# Altium schematic symbol library Schlib1.SchLib: 22 symbols
Pins are listed as number, name and electrical type; pins without a type are passive.

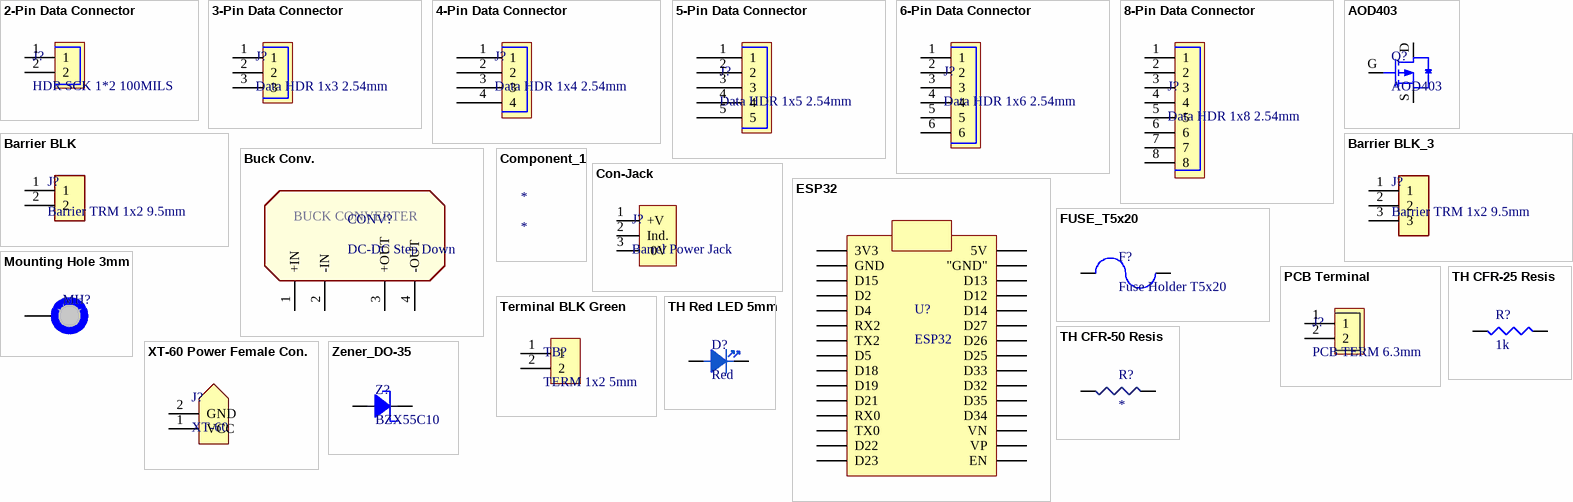
[diagram p0: symbols 2-Pin Data Connector to Zener_DO-35]

## 2-Pin Data Connector
designator J?, comment HDR SCK 1*2 100MILS
Conn Shrouded Header HDR 2 POS 2.54mm Solder ST Thru-Hole; Manufacturer 1: TE Connectivity; Manufacturer Part Number 1: 2-644861-2; Underplate Material: Nickel; Number of Contacts: 2; Connector Type: Plug,Header,Pin; Voltage Rating: 250V; Mating Alignment: Yes (With); PCB Mount Retention: Without; PCB Mounting Orientation: Vertical; Gender: Male; Current Rating: 5A; Contact Resistance: 6mR; Contact Retention: No (Without); Connector System: Wire-to-Board; Contact Style: Straight; Contact Post Length: 3.56mm; Plating Thickness: 6.3um; PCB Thickness: 0.063inch; Approvals: CSA; Supplier 1: Digi-Key; Stock 1: 3206; Pricing 1: 1=0.41000, 10=0.39200, 100=0.27420, 500=0.23506, 1000=0.19588, 5000=0.16790, 10000=0.15670 (USD); RoHS: Yes; Mount: Through Hole; Housing Color: Black; Contact Plating: Tin,Matte; Contact Material: Copper Alloy; Housing Material: Polyester; Color: Black; Contact Shape: Square; Min Operating Temperature: -67°C; Max Operating Temperature: 221°C; Termination: Solder; Number of Rows: 1; Number of Positions: 2; Package Quantity: 500; Packaging: Bag; Contact Gender: Male; Orientation: Straight; Fastening Type: Friction; Max Voltage Rating (AC): 250V; Shrouded: Yes (With); Voltage Rating (AC): 250V; Mating Retention: Yes (With); PCB Mount Alignment: No (Without); Sealable: No (Without); Contact Current Rating: 5A; Strain Relief: No (Without); Backwall/Post Interruptions: No (Without); Length: 7.21mm; Height: 10.41mm; Pitch: 2.54mm; Contact Mating Length: 5.1mm; Depth: 7.95mm; Tail Length: 3.56mm; Radiation Hardening: No; Flammability Rating: UL94 V-0; ELV: Compliant; Lead Free: Lead Free; REACH SVHC: Unknown; ComponentLink1URL: https://datasheet.ciiva.com/16303/eng-ds-82056-mta-0608-16303634.pdf?src-supplier=Future+Electronics; ComponentLink1Description: https://datasheet.ciiva.com/16303/eng-ds-82056-mta-0608-16303634.pdf?src-supplier=Future+Electronics; ComponentLink2URL: https://datasheet.ciiva.com/30111/8852eng-ds-82056-mta-0608-30111398.pdf?src-supplier=Onlinecomponents.com; ComponentLink2Description: https://datasheet.ciiva.com/30111/8852eng-ds-82056-mta-0608-30111398.pdf?src-supplier=Onlinecomponents.com; ComponentLink3URL: https://datasheet.ciiva.com/709/eng-cd-644861-n-basefilename-709739.pdf?src-supplier=Digi-Key; ComponentLink3Description: https://datasheet.ciiva.com/709/eng-cd-644861-n-basefilename-709739.pdf?src-supplier=Digi-Key; ComponentLink4URL: https://datasheet.ciiva.com/3118/eng-ds-82056-mta-0608-3118126.pdf?src-supplier=Avnet; ComponentLink4Description: https://datasheet.ciiva.com/3118/eng-ds-82056-mta-0608-3118126.pdf?src-supplier=Avnet; Supplier Part Number 1: A30931-ND
footprint DHDR 1*2 2,54MM
pins: 1, 2

## 3-Pin Data Connector
designator J?, comment Data HDR 1x3 2.54mm
03P MTA100 SHRD HDR,W/O PEG SN; Manufacturer 1: TE Connectivity; Manufacturer Part Number 1: 2-644861-3; Underplate Material: Nickel; Number of Contacts: 3; Voltage Rating: 250V; Mating Alignment: Yes (With); PCB Mount Retention: Without; PCB Mounting Orientation: Vertical; Connector Type: Plug,Header,Pin; Contact Resistance: 6mR; Current Rating: 5A; Gender: Male; Connector System: Wire-to-Board; Contact Retention: No (Without); Contact Style: Straight; Contact Post Length: 3.56mm; Plating Thickness: 6.3um; PCB Thickness: 0.063inch; Approvals: CSA; Supplier 1: Digi-Key; Stock 1: 12064; Pricing 1: 1=0.51000, 10=0.48000, 100=0.36770, 500=0.31978, 1000=0.26382, 5000=0.23184, 10000=0.21585 (USD); RoHS: Yes; Mount: Through Hole; Color: Black; Contact Plating: Tin,Matte; Contact Material: Copper Alloy; Housing Material: Polyester; Housing Color: Black; Contact Shape: Square; Min Operating Temperature: -67°C; Max Operating Temperature: 221°C; Termination: Solder; Number of Rows: 1; Number of Positions: 3; Package Quantity: 500; Fastening Type: Friction; Packaging: Bag; Contact Gender: Male; Orientation: Straight; Max Voltage Rating (AC): 250V; Voltage Rating (AC): 250V; Shrouded: Yes (With); Mating Retention: Yes (With); PCB Mount Alignment: No (Without); Sealable: No (Without); Contact Current Rating: 5A; Backwall/Post Interruptions: No (Without); Strain Relief: No (Without); Length: 9.75mm; Height: 10.41mm; Pitch: 2.54mm; Contact Mating Length: 5.1mm; Depth: 7.95mm; Tail Length: 3.56mm; Radiation Hardening: No; Flammability Rating: UL94 V-0; ELV: Compliant; Lead Free: Lead Free; REACH SVHC: Unknown; ComponentLink1URL: https://datasheet.ciiva.com/709/eng-cd-644861-n-basefilename-709776.pdf?src-supplier=Digi-Key; ComponentLink1Description: https://datasheet.ciiva.com/709/eng-cd-644861-n-basefilename-709776.pdf?src-supplier=Digi-Key; ComponentLink2URL: https://datasheet.ciiva.com/19463/911331-19463444.pdf?src-supplier=Jameco; ComponentLink2Description: https://datasheet.ciiva.com/19463/911331-19463444.pdf?src-supplier=Jameco; ComponentLink3URL: https://datasheet.ciiva.com/30493/0900766b80f915a0-30493286.pdf?src-supplier=RSComponents; ComponentLink3Description: https://datasheet.ciiva.com/30493/0900766b80f915a0-30493286.pdf?src-supplier=RSComponents; ComponentLink4URL: https://datasheet.ciiva.com/16684/eng-ds-82056-mta-0608-16684920.pdf?src-supplier=Avnet+Europe; ComponentLink4Description: https://datasheet.ciiva.com/16684/eng-ds-82056-mta-0608-16684920.pdf?src-supplier=Avnet+Europe; ComponentLink5URL: https://datasheet.ciiva.com/30195/8852eng-ds-82056-mta-0608-30195592.pdf?src-supplier=Onlinecomponents.com; ComponentLink5Description: https://datasheet.ciiva.com/30195/8852eng-ds-82056-mta-0608-30195592.pdf?src-supplier=Onlinecomponents.com; ComponentLink6URL: https://datasheet.ciiva.com/16374/2-644861-3-16374442.pdf?src-supplier=Future+Electronics; ComponentLink6Description: https://datasheet.ciiva.com/16374/2-644861-3-16374442.pdf?src-supplier=Future+Electronics
footprint DHDR_1x3_2.54mm
pins: 1, 2, 3

## 4-Pin Data Connector
designator J?, comment Data HDR 1x4 2.54mm
MTA-100 Series, 2.54mm Pitch 4 Way 1 RowStraight PCB Header, Solder Term, 5A; Manufacturer 1: TE Connectivity; Manufacturer Part Number 1: 2-644861-4; Underplate Material: Nickel; Number of Contacts: 4; Connector Type: Plug,Header,Pin; Voltage Rating: 250V; Gender: Male; Shrouded: Yes (With); PCB Mount Retention: Without; PCB Mounting Orientation: Vertical; Contact Resistance: 6mR; Backwall/Post Interruptions: No (Without); Connector System: Wire-to-Board; Contact Post Length: 3.56mm; Plating Thickness: 6.35um; PCB Thickness: 0.063inch; Approvals: CSA; Supplier 1: Digi-Key; Stock 1: 18767; Pricing 1: 1=0.79000, 10=0.74100, 100=0.56790, 500=0.49380, 1000=0.40739, 5000=0.35801, 10000=0.33332 (USD); RoHS: Yes; Mount: Through Hole; Housing Color: Black; Color: Black; Contact Material: Copper Alloy; Contact Plating: Tin,Matte; Housing Material: Polyester; Contact Shape: Square; Min Operating Temperature: -67°C; Max Operating Temperature: 221°C; Termination: Solder; Number of Rows: 1; Contact Gender: Male; Number of Positions: 4; Package Quantity: 500; Packaging: Loose Piece; Current Rating: 5A; Voltage Rating (AC): 250V; Mating Alignment: Yes (With); Orientation: Straight; Fastening Type: Friction; Max Voltage Rating (AC): 250V; Contact Current Rating: 5A; Contact Retention: No (Without); Mating Retention: Yes (With); PCB Mount Alignment: No (Without); Sealable: No (Without); Strain Relief: No (Without); Contact Style: Straight; Length: 12.29mm; Height: 10.41mm; Pitch: 2.54mm; Contact Mating Length: 5.1mm; Depth: 7.95mm; Tail Length: 3.56mm; Radiation Hardening: No; Flammability Rating: UL94 V-0; ELV: Compliant; Lead Free: Lead Free; REACH SVHC: Unknown; ComponentLink1URL: https://datasheet.ciiva.com/7800/1651878-7800290.pdf?src-supplier=Element14; ComponentLink1Description: https://datasheet.ciiva.com/7800/1651878-7800290.pdf?src-supplier=Element14; ComponentLink2URL: https://datasheet.ciiva.com/15175/getdatasheetpartid-36841-15175492.pdf?src-supplier=Verical; ComponentLink2Description: https://datasheet.ciiva.com/15175/getdatasheetpartid-36841-15175492.pdf?src-supplier=Verical; ComponentLink3URL: https://datasheet.ciiva.com/11759/0900766b80f915a0-11759930.pdf?src-supplier=RSComponents; ComponentLink3Description: https://datasheet.ciiva.com/11759/0900766b80f915a0-11759930.pdf?src-supplier=RSComponents; ComponentLink4URL: https://datasheet.ciiva.com/714/eng-cd-644861-n-basefilename-714593.pdf?src-supplier=Digi-Key; ComponentLink4Description: https://datasheet.ciiva.com/714/eng-cd-644861-n-basefilename-714593.pdf?src-supplier=Digi-Key; ComponentLink5URL: https://datasheet.ciiva.com/16684/eng-ds-82056-mta-0608-16684709.pdf?src-supplier=Avnet+Europe; ComponentLink5Description: https://datasheet.ciiva.com/16684/eng-ds-82056-mta-0608-16684709.pdf?src-supplier=Avnet+Europe; ComponentLink6URL: https://datasheet.ciiva.com/16497/eng-ds-82056-mta-0608-16497871.pdf?src-supplier=Avnet+Asia; ComponentLink6Description: https://datasheet.ciiva.com/16497/eng-ds-82056-mta-0608-16497871.pdf?src-supplier=Avnet+Asia; Supplier Part Number 1: A30933-ND
footprint DHDR_1x4_2.54mm
pins: 1, 2, 3, 4

## 5-Pin Data Connector
designator J?, comment Data HDR 1x5 2.54mm
TE CONNECTIVITY / AMP         2-644861-5            Wire-To-Board Connector, MTA-100 Series, Through Hole, Header, 5 Contacts, 2.54 mm; Underplate Material: Nickel; Connector Type: Plug,Header,Pin; Number of Positions: 5; Gender: Male; Mating Alignment: Yes (With); PCB Mount Retention: Without; PCB Mounting Orientation: Vertical; Contact Resistance: 6mR; Max Voltage Rating (AC): 250V; Current Rating: 5A; Strain Relief: No (Without); Contact Style: Straight; Contact Post Length: 3.56mm; PCB Thickness: 0.063inch; Plating Thickness: 6.3um; Approvals: CSA; Supplier 1: Digi-Key; Manufacturer 1: TE Connectivity; Manufacturer Part Number 1: 2-644861-5; Stock 1: 995; Pricing 1: 1=0.88000, 10=0.77100, 100=0.66540, 500=0.54444, 1000=0.48395, 5000=0.42346, 10000=0.40229 (USD); RoHS: Yes; Mount: Through Hole; Housing Color: Black; Housing Material: Polyester; Contact Material: Copper Alloy; Contact Plating: Tin,Matte; Color: Black; Contact Shape: Square; Min Operating Temperature: -67°C; Max Operating Temperature: 221°C; Termination: Solder; Number of Contacts: 5; Number of Rows: 1; Package Quantity: 500; Packaging: Bag; Orientation: Straight; Contact Gender: Male; Fastening Type: Friction; Voltage Rating: 250V; Voltage Rating (AC): 250V; Shrouded: Yes (With); Contact Current Rating: 5A; Backwall/Post Interruptions: No (Without); Contact Retention: No (Without); Mating Retention: Yes (With); PCB Mount Alignment: No (Without); Connector System: Wire-to-Board; Sealable: No (Without); Length: 0.584inch; Height: 10.41mm; Pitch: 2.54mm; Contact Mating Length: 5.1mm; Depth: 7.95mm; Tail Length: 3.56mm; Radiation Hardening: No; Flammability Rating: UL94 V-0; ELV: Compliant; Lead Free: Lead Free; REACH SVHC: No SVHC; ComponentLink1URL: https://datasheet.ciiva.com/11759/0900766b80f915a1-11759928.pdf?src-supplier=RSComponents; ComponentLink1Description: https://datasheet.ciiva.com/11759/0900766b80f915a1-11759928.pdf?src-supplier=RSComponents; ComponentLink2URL: https://datasheet.ciiva.com/712/eng-cd-644861-n-basefilename-712852.pdf?src-supplier=Digi-Key; ComponentLink2Description: https://datasheet.ciiva.com/712/eng-cd-644861-n-basefilename-712852.pdf?src-supplier=Digi-Key; ComponentLink3URL: https://datasheet.ciiva.com/9478/eng-ds-82056-mta-0608-9478361.pdf?src-supplier=Avnet; ComponentLink3Description: https://datasheet.ciiva.com/9478/eng-ds-82056-mta-0608-9478361.pdf?src-supplier=Avnet; ComponentLink4URL: https://datasheet.ciiva.com/30161/8852eng-ds-82056-mta-0608-30161999.pdf?src-supplier=Onlinecomponents.com; ComponentLink4Description: https://datasheet.ciiva.com/30161/8852eng-ds-82056-mta-0608-30161999.pdf?src-supplier=Onlinecomponents.com; Supplier Part Number 1: A30934-ND
footprint DHDR_1x5_2.54mm
pins: 1, 2, 3, 4, 5

## 6-Pin Data Connector
designator J?, comment Data HDR 1x6 2.54mm
CONN HEADER VERT 6POS .100 TIN; Manufacturer 1: TE Connectivity; Manufacturer Part Number 1: 2-644861-6; Underplate Material: Nickel; Number of Contacts: 6; Connector Type: Plug,Header,Pin; Contact Resistance: 6mR; Mating Alignment: Yes (With); PCB Mount Retention: Without; PCB Mounting Orientation: Vertical; Parameter Name 1: Box; Voltage Rating: 250V; Current Rating: 5A; Backwall/Post Interruptions: No (Without); Connector System: Wire-to-Board; Plating Thickness: 6.3um; Contact Style: Straight; Contact Post Length: 3.56mm; PCB Thickness: 0.063inch; Approvals: CSA; Supplier 1: Digi-Key; Stock 1: 208; Pricing 1: 1=1.04000, 10=0.91900, 100=0.79250, 500=0.64840, 1000=0.57635, 5000=0.50431, 10000=0.47909 (USD); RoHS: Yes; Mount: Through Hole; Housing Material: Polyester; Contact Plating: Tin,Matte; Contact Material: Copper Alloy; Contact Shape: Square; Color: Black; Housing Color: Black; Min Operating Temperature: -67°C; Max Operating Temperature: 221°C; Number of Rows: 1; Termination: Solder; Contact Gender: Male; Package Quantity: 1000; Max Voltage Rating (AC): 250V; Fastening Type: Friction; Orientation: Straight; Number of Positions: 6; Contact Retention: No (Without); Mating Retention: Yes (With); PCB Mount Alignment: No (Without); Sealable: No (Without); Strain Relief: No (Without); Contact Current Rating: 5A; Length: 0.684inch; Height: 10.41mm; Pitch: 2.54mm; Contact Mating Length: 5.1mm; Depth: 7.95mm; Tail Length: 3.56mm; Radiation Hardening: No; Flammability Rating: UL94 V-0; REACH SVHC: Unknown; ComponentLink1URL: https://datasheet.ciiva.com/30493/0900766b80f915a1-30493314.pdf?src-supplier=RSComponents; ComponentLink1Description: https://datasheet.ciiva.com/30493/0900766b80f915a1-30493314.pdf?src-supplier=RSComponents; ComponentLink2URL: https://datasheet.ciiva.com/16303/2-644861-6-16303636.pdf?src-supplier=Future+Electronics; ComponentLink2Description: https://datasheet.ciiva.com/16303/2-644861-6-16303636.pdf?src-supplier=Future+Electronics; ComponentLink3URL: https://datasheet.ciiva.com/16684/eng-ds-82056-mta-0608-16684438.pdf?src-supplier=Avnet+Europe; ComponentLink3Description: https://datasheet.ciiva.com/16684/eng-ds-82056-mta-0608-16684438.pdf?src-supplier=Avnet+Europe; ComponentLink4URL: https://datasheet.ciiva.com/15175/getdatasheetpartid-36761-15175467.pdf?src-supplier=Verical; ComponentLink4Description: https://datasheet.ciiva.com/15175/getdatasheetpartid-36761-15175467.pdf?src-supplier=Verical; ComponentLink5URL: https://datasheet.ciiva.com/714/eng-cd-644861-n-basefilename-714750.pdf?src-supplier=Digi-Key; ComponentLink5Description: https://datasheet.ciiva.com/714/eng-cd-644861-n-basefilename-714750.pdf?src-supplier=Digi-Key; ComponentLink6URL: https://datasheet.ciiva.com/30135/8852eng-ds-82056-mta-0608-30135278.pdf?src-supplier=Onlinecomponents.com; ComponentLink6Description: https://datasheet.ciiva.com/30135/8852eng-ds-82056-mta-0608-30135278.pdf?src-supplier=Onlinecomponents.com; ComponentLink7URL: https://datasheet.ciiva.com/3118/eng-ds-82056-mta-0608-3118127.pdf?src-supplier=Avnet; ComponentLink7Description: https://datasheet.ciiva.com/3118/eng-ds-82056-mta-0608-3118127.pdf?src-supplier=Avnet; Supplier Part Number 1: A30935-ND
footprint DHDR_1x6_2.54mm
pins: 1, 2, 3, 4, 5, 6

## 8-Pin Data Connector
designator J?, comment Data HDR 1x8 2.54mm
CONN HEADER VERT 8POS .100 TIN; Manufacturer 1: TE Connectivity; Manufacturer Part Number 1: 2-644861-8; Underplate Material: Nickel; Number of Contacts: 8; Connector Type: Plug,Header,Pin; Mating Alignment: Yes (With); PCB Mount Retention: Without; PCB Mounting Orientation: Vertical; Contact Resistance: 6mR; Max Voltage Rating (AC): 250V; Current Rating: 5A; Gender: Male; Backwall/Post Interruptions: No (Without); Connector System: Wire-to-Board; Contact Style: Straight; Contact Post Length: 3.56mm; Plating Thickness: 6.3um; PCB Thickness: 0.063inch; Approvals: CSA; Supplier 1: Digi-Key; Stock 1: 1996; Pricing 1: 1=0.62000, 10=0.58100, 100=0.44530, 500=0.38726, 1000=0.31949, 5000=0.28076, 10000=0.26140 (USD); RoHS: Yes; Mount: Through Hole; Housing Material: Polyester; Contact Shape: Square; Contact Plating: Tin,Matte; Contact Material: Copper Alloy; Color: Black; Housing Color: Black; Min Operating Temperature: -67°C; Max Operating Temperature: 221°C; Termination: Solder; Number of Rows: 1; Number of Positions: 8; Packaging: Bulk; Contact Gender: Male; Package Quantity: 1000; Voltage Rating: 250V; Fastening Type: Friction; Orientation: Straight; Contact Retention: No (Without); Mating Retention: Yes (With); PCB Mount Alignment: No (Without); Sealable: No (Without); Strain Relief: No (Without); Contact Current Rating: 5A; Length: 22.45mm; Height: 10.41mm; Pitch: 2.54mm; Contact Mating Length: 5.1mm; Depth: 7.95mm; Tail Length: 3.56mm; Radiation Hardening: No; Flammability Rating: UL94 V-0; REACH SVHC: Unknown; ComponentLink1URL: https://datasheet.ciiva.com/16303/2-644861-8-16303640.pdf?src-supplier=Future+Electronics; ComponentLink1Description: https://datasheet.ciiva.com/16303/2-644861-8-16303640.pdf?src-supplier=Future+Electronics; ComponentLink2URL: https://datasheet.ciiva.com/11745/0900766b81026688-11745886.pdf?src-supplier=RSComponents; ComponentLink2Description: https://datasheet.ciiva.com/11745/0900766b81026688-11745886.pdf?src-supplier=RSComponents; ComponentLink3URL: https://datasheet.ciiva.com/709/eng-cd-644861-n-basefilename-709773.pdf?src-supplier=Digi-Key; ComponentLink3Description: https://datasheet.ciiva.com/709/eng-cd-644861-n-basefilename-709773.pdf?src-supplier=Digi-Key; ComponentLink4URL: https://datasheet.ciiva.com/9478/eng-ds-82056-mta-0608-9478367.pdf?src-supplier=Avnet; ComponentLink4Description: https://datasheet.ciiva.com/9478/eng-ds-82056-mta-0608-9478367.pdf?src-supplier=Avnet; ComponentLink5URL: https://datasheet.ciiva.com/16684/eng-ds-82056-mta-0608-16684159.pdf?src-supplier=Avnet+Europe; ComponentLink5Description: https://datasheet.ciiva.com/16684/eng-ds-82056-mta-0608-16684159.pdf?src-supplier=Avnet+Europe; Supplier Part Number 1: A30937-ND
footprint DHDR_1x8_2.54mm
pins: 1, 2, 3, 4, 5, 6, 7, 8

## AOD403
designator Q?
MOSFET Transistor P-Channel 30V 15A 3.5V @ 250uA 6mΩ @ 20A,20V 2.5W TO-252-2(DPAK)
footprint DPAK
pins: D, G, S

## Barrier BLK
designator J?, comment Barrier TRM 1x2 9.5mm
CONN BARRIER STRIP 2CIRC 0.374"; Manufacturer 1: On-Shore Technology; Manufacturer Part Number 1: OSTYK44102030; Current Rating: 30A; Voltage Rating: 300V; Parameter Name 1: Bulk; Number of Circuits: 2; Wire Gauge (Max): 22AWG; Wire Gauge (Min): 10AWG; Pitch: 0.374inch; Supplier 1: Digi-Key; Stock 1: 3505; Pricing 1: 1=1.22000, 10=0.76100, 25=0.65160, 50=0.58560, 100=0.57340, 250=0.48800, 500=0.46360, 1000=0.41480, 5000=0.32452 (USD); RoHS: Yes; Mount: Through Hole; Color: Black; Insulation Material: Nylon; Min Operating Temperature: -40°C; Max Operating Temperature: 105°C; Number of Rows: 1; Number of Wire Entries: 2; Flammability Rating: UL94 V-0; ComponentLink1URL: https://datasheet.ciiva.com/778/ostyk441xx030-778584.pdf?src-supplier=Digi-Key; ComponentLink1Description: https://datasheet.ciiva.com/778/ostyk441xx030-778584.pdf?src-supplier=Digi-Key; Supplier Part Number 1: ED2971-ND
footprint BARRIER_9.5MM
pins: 1, 2

## Barrier BLK_3
designator J?, comment Barrier TRM 1x2 9.5mm
CONN BARRIER STRIP 3CIRC 0.374"; Manufacturer 1: On-Shore Technology; Manufacturer Part Number 1: OSTYK44102030; Current Rating: 30A; Voltage Rating: 300V; Parameter Name 1: Bulk; Number of Circuits: 2; Wire Gauge (Max): 22AWG; Wire Gauge (Min): 10AWG; Pitch: 0.374inch; Supplier 1: Digi-Key; Stock 1: 3505; Pricing 1: 1=1.22000, 10=0.76100, 25=0.65160, 50=0.58560, 100=0.57340, 250=0.48800, 500=0.46360, 1000=0.41480, 5000=0.32452 (USD); RoHS: Yes; Mount: Through Hole; Color: Black; Insulation Material: Nylon; Min Operating Temperature: -40°C; Max Operating Temperature: 105°C; Number of Rows: 1; Number of Wire Entries: 2; Flammability Rating: UL94 V-0; ComponentLink1URL: https://datasheet.ciiva.com/778/ostyk441xx030-778584.pdf?src-supplier=Digi-Key; ComponentLink1Description: https://datasheet.ciiva.com/778/ostyk441xx030-778584.pdf?src-supplier=Digi-Key; Supplier Part Number 1: ED2971-ND
footprint BARRIER_3_9.5MM
pins: 1, 2, 3

## Buck Conv.
designator CONV?, comment DC-DC Step Down
Conv DC-DC 4.5V to 40V Inv/Step Down Single-Out 1.2V to 37V 3A 6-Pin(5+Tab) TO-263 Tube; Manufacturer 1: Texas Instruments; Manufacturer Part Number 1: LM2596S-ADJ/NOPB; Number of Outputs: 1; Parameter Name 1: Rail/Tube; Switching Frequency: 173kHz; Efficiency: 73%; Quiescent Current: 5mA; Output Type: Adjustable; Supplier 1: Digi-Key; Stock 1: 4513; Pricing 1: 1=5.72000, 10=5.14100, 25=4.86000, 100=3.99600, 250=3.58560, 500=3.45600, 1000=2.87280, 2500=2.76480, 5000=2.67840 (USD); Mount: Surface Mount; Case/Package: TO-263; Number of Pins: 5; Weight: 0.056128oz; Contact Plating: Tin; Min Operating Temperature: -40°C; Max Operating Temperature: 125°C; Output Voltage: 37V; Max Output Current: 3A; Min Input Voltage: 4.5V; Max Input Voltage: 40V; Output Current: 3A; Max Output Voltage: 37V; Min Output Voltage: 1.2V; Operating Supply Voltage: 40V; Length: 10.16mm; Height: 4.57mm; Width: 8.64mm; Radiation Hardening: No; REACH SVHC: No SVHC; Lead Free: Contains Lead; ComponentLink1URL: https://datasheet.ciiva.com/27056/2051160-27056491.pdf?src-supplier=Jameco; ComponentLink1Description: https://datasheet.ciiva.com/27056/2051160-27056491.pdf?src-supplier=Jameco; ComponentLink2URL: https://datasheet.ciiva.com/15112/getdatasheetpartid-55559-15112636.pdf?src-supplier=Verical; ComponentLink2Description: https://datasheet.ciiva.com/15112/getdatasheetpartid-55559-15112636.pdf?src-supplier=Verical; ComponentLink3URL: https://datasheet.ciiva.com/41457/001013814-da-01-en-ic-reg-buc-lm2596s-adj-nopb-to-263-5-tid-41457756.pdf?src-supplier=Conrad; ComponentLink3Description: https://datasheet.ciiva.com/41457/001013814-da-01-en-ic-reg-buc-lm2596s-adj-nopb-to-263-5-tid-41457756.pdf?src-supplier=Conrad; ComponentLink4URL: https://datasheet.ciiva.com/6596/lm2596-6596342.pdf?src-supplier=Digi-Key; ComponentLink4Description: https://datasheet.ciiva.com/6596/lm2596-6596342.pdf?src-supplier=Digi-Key; ComponentLink5URL: https://datasheet.ciiva.com/22669/1874590-22669464.pdf?src-supplier=Element14; ComponentLink5Description: https://datasheet.ciiva.com/22669/1874590-22669464.pdf?src-supplier=Element14; ComponentLink6URL: https://datasheet.ciiva.com/14150/jqlm2596x-xx-e-14150653.pdf?src-supplier=Distrelec; ComponentLink6Description: https://datasheet.ciiva.com/14150/jqlm2596x-xx-e-14150653.pdf?src-supplier=Distrelec; ComponentLink7URL: https://octopart.com/click/track?ai=10049&ct=datasheets&sig=08a4c86&at=physicalpart&sid=370&ppid=24812941&hlid=29972682&src-supplier=TI+store; ComponentLink7Description: https://octopart.com/click/track?ai=10049&ct=datasheets&sig=08a4c86&at=physicalpart&sid=370&ppid=24812941&hlid=29972682&src-supplier=TI+store; ComponentLink8URL: http://datasheet.octopart.com/LM2596S-ADJ-NOPB-Texas-Instruments-datasheet-34438175.pdf?src-supplier=TME; ComponentLink8Description: http://datasheet.octopart.com/LM2596S-ADJ-NOPB-Texas-Instruments-datasheet-34438175.pdf?src-supplier=TME; ComponentLink9URL: http://datasheet.octopart.com/LM2596S-ADJ/NOPB-Texas-Instruments-datasheet-10621667.pdf?src-supplier=Verical; ComponentLink9Description: http://datasheet.octopart.com/LM2596S-ADJ/NOPB-Texas-Instruments-datasheet-10621667.pdf?src-supplier=Verical; ComponentLink10URL: http://datasheet.octopart.com/LM2596S-ADJ-NOPB-Texas-Instruments-datasheet-14775467.pdf?src-supplier=TI+store; ComponentLink10Description: http://datasheet.octopart.com/LM2596S-ADJ-NOPB-Texas-Instruments-datasheet-14775467.pdf?src-supplier=TI+store; ComponentLink11URL: http://sigma.octopart.com/49250911/technical_drawing/Texas-Instruments-LM2596S-ADJ-NOPB.pdf?src-supplier=TI+store; ComponentLink11Description: http://sigma.octopart.com/49250911/technical_drawing/Texas-Instruments-LM2596S-ADJ-NOPB.pdf?src-supplier=TI+store; ComponentLink12URL: http://datasheet.octopart.com/LM2596S-ADJ/NOPB-National-Semiconductor-datasheet-6038.pdf?src-supplier=Future+Electronics; ComponentLink12Description: http://datasheet.octopart.com/LM2596S-ADJ/NOPB-National-Semiconductor-datasheet-6038.pdf?src-supplier=Future+Electronics; ComponentLink13URL: http://datasheet.octopart.com/LM2596S-ADJ-NOPB-Texas-Instruments-datasheet-21076667.pdf?src-supplier=Newark; ComponentLink13Description: http://datasheet.octopart.com/LM2596S-ADJ-NOPB-Texas-Instruments-datasheet-21076667.pdf?src-supplier=Newark; ComponentLink14URL: http://datasheet.octopart.com/LM2596S-ADJ-NOPB-Texas-Instruments-datasheet-9136.pdf?src-supplier=Element14; ComponentLink14Description: http://datasheet.octopart.com/LM2596S-ADJ-NOPB-Texas-Instruments-datasheet-9136.pdf?src-supplier=Element14; ComponentLink15URL: http://datasheet.octopart.com/LM2596S-ADJ-NOPB-Texas-Instruments-datasheet-65712979.pdf?src-supplier=Newark; ComponentLink15Description: http://datasheet.octopart.com/LM2596S-ADJ-NOPB-Texas-Instruments-datasheet-65712979.pdf?src-supplier=Newark; ComponentLink16URL: http://datasheet.octopart.com/LM2596S-ADJ-NOPB-Texas-Instruments-datasheet-8528656.pdf?src-supplier=Element14; ComponentLink16Description: http://datasheet.octopart.com/LM2596S-ADJ-NOPB-Texas-Instruments-datasheet-8528656.pdf?src-supplier=Element14; ComponentLink17URL: http://datasheet.octopart.com/LM2596S-ADJ-NOPB-Texas-Instruments-datasheet-10845692.pdf?src-supplier=Element14; ComponentLink17Description: http://datasheet.octopart.com/LM2596S-ADJ-NOPB-Texas-Instruments-datasheet-10845692.pdf?src-supplier=Element14; ComponentLink18URL: http://datasheet.octopart.com/LM2596S-ADJ-NOPB-Texas-Instruments-datasheet-7596510.pdf?src-supplier=Jameco; ComponentLink18Description: http://datasheet.octopart.com/LM2596S-ADJ-NOPB-Texas-Instruments-datasheet-7596510.pdf?src-supplier=Jameco; ComponentLink19URL: http://datasheet.octopart.com/LM2596S-ADJ-NOPB-Texas-Instruments-datasheet-62342754.pdf?src-supplier=TME; ComponentLink19Description: http://datasheet.octopart.com/LM2596S-ADJ-NOPB-Texas-Instruments-datasheet-62342754.pdf?src-supplier=TME; ComponentLink20URL: http://datasheet.octopart.com/LM2596S-ADJ-NOPB-Texas-Instruments-datasheet-17726397.pdf?src-supplier=Upverter; ComponentLink20Description: http://datasheet.octopart.com/LM2596S-ADJ-NOPB-Texas-Instruments-datasheet-17726397.pdf?src-supplier=Upverter; ComponentLink21URL: http://datasheet.octopart.com/LM2596S-ADJ/NOPB-National-Semiconductor-datasheet-9599829.pdf?src-supplier=Allied+Electronics; ComponentLink21Description: http://datasheet.octopart.com/LM2596S-ADJ/NOPB-National-Semiconductor-datasheet-9599829.pdf?src-supplier=Allied+Electronics; Supplier Part Number 1: LM2596S-ADJ/NOPB-ND
footprint DC_STP_DWN
pins: 1 +IN, 2 -IN, 3 +OUT, 4 -OUT
text: BUCK CONVERTER

## Component_1
designator *

## Con-Jack
designator J?, comment Barrel Power Jack
DC-Power Socket 12V 5A 2, 1mm Solder Eyel; Manufacturer 1: Cliff; Manufacturer Part Number 1: FC68148; Parameter Name 1: Bulk; Inside Diameter: 6.3mm; Supplier 1: Conrad; RoHS: Yes; Weight: 0.1lb; Current Rating: 5A; Orientation: Right Angle; Connector Type: Socket; Length: 5inch; Height: 0.25inch; Width: 3inch; ComponentLink1URL: http://www.farnell.com/datasheets/317160.pdf?src-supplier=Farnell; ComponentLink1Description: http://www.farnell.com/datasheets/317160.pdf?src-supplier=Farnell; ComponentLink2URL: http://www.rapidonline.com/pdf/735742_da_en_01.pdf?src-supplier=Rapid+Electronics; ComponentLink2Description: http://www.rapidonline.com/pdf/735742_da_en_01.pdf?src-supplier=Rapid+Electronics; ComponentLink3URL: http://www.produktinfo.conrad.com/datenblaetter/725000-749999/735742-da-01-en-DC_BUCHSE_2_1MM_FC68148.pdf?src-supplier=Conrad; ComponentLink3Description: http://www.produktinfo.conrad.com/datenblaetter/725000-749999/735742-da-01-en-DC_BUCHSE_2_1MM_FC68148.pdf?src-supplier=Conrad; Supplier Part Number 1: 735742
footprint pwr_Jack
pins: 1 +V, 2 Ind., 3  0V

## ESP32
designator U?
ESP 32 (30 pins)
footprint ESP32 - duplicate
pins: 1 3V3, 2 GND, 3 D15, 4 D2, 5 D4, 6 RX2, 7 TX2, 8 D5, 9 D18, 10 D19, 11 D21, 12 RX0, 13 TX0, 14 D22, 15 D23, 16 EN, 17 VP, 18 VN, 19 D34, 20 D35, 21 D32, 22 D33, 23 D25, 24 D26, 25 D27, 26 D14, 27 D12, 28 D13, 29 "GND", 30 5V

## FUSE_T5x20
designator F?, comment Fuse Holder T5x20
footprint FUSE
pins: 1, 2

## Mounting Hole 3mm
designator MH?, comment MH_7.4MMC_3.2MMD  (value not drawn)  (no BOM)
Mounting Hole, 7.4mm diameter, 3.2mm drill.
footprint MH_7.4MMC_3.2MMD
pins: 1

## PCB Terminal
designator J?, comment PCB TERM 6.3mm
Manufacturer 1: TE Connectivity; Manufacturer Part Number 1: 2-644861-2; Underplate Material: Nickel; Number of Contacts: 2; Connector Type: Plug,Header,Pin; Voltage Rating: 250V; Mating Alignment: Yes (With); PCB Mount Retention: Without; PCB Mounting Orientation: Vertical; Gender: Male; Current Rating: 5A; Contact Resistance: 6mR; Contact Retention: No (Without); Connector System: Wire-to-Board; Contact Style: Straight; Pitch: 2.54mm; Contact Post Length: 3.56mm; Plating Thickness: 6.3um; PCB Thickness: 0.063inch; Approvals: CSA; Supplier 1: Digi-Key; Stock 1: 3206; Pricing 1: 1=0.41000, 10=0.39200, 100=0.27420, 500=0.23506, 1000=0.19588, 5000=0.16790, 10000=0.15670 (USD); RoHS: Yes; Mount: Through Hole; Housing Color: Black; Contact Plating: Tin,Matte; Contact Material: Copper Alloy; Housing Material: Polyester; Color: Black; Contact Shape: Square; Min Operating Temperature: -67°C; Max Operating Temperature: 221°C; Termination: Solder; Number of Rows: 1; Number of Positions: 2; Package Quantity: 500; Packaging: Bag; Contact Gender: Male; Orientation: Straight; Fastening Type: Friction; Max Voltage Rating (AC): 250V; Shrouded: Yes (With); Voltage Rating (AC): 250V; Mating Retention: Yes (With); PCB Mount Alignment: No (Without); Sealable: No (Without); Contact Current Rating: 5A; Strain Relief: No (Without); Backwall/Post Interruptions: No (Without); Length: 7.21mm; Height: 10.41mm; Contact Mating Length: 5.1mm; Depth: 7.95mm; Tail Length: 3.56mm; Radiation Hardening: No; Flammability Rating: UL94 V-0; ELV: Compliant; Lead Free: Lead Free; REACH SVHC: Unknown; ComponentLink1URL: https://datasheet.ciiva.com/16303/eng-ds-82056-mta-0608-16303634.pdf?src-supplier=Future+Electronics; ComponentLink1Description: https://datasheet.ciiva.com/16303/eng-ds-82056-mta-0608-16303634.pdf?src-supplier=Future+Electronics; ComponentLink2URL: https://datasheet.ciiva.com/30111/8852eng-ds-82056-mta-0608-30111398.pdf?src-supplier=Onlinecomponents.com; ComponentLink2Description: https://datasheet.ciiva.com/30111/8852eng-ds-82056-mta-0608-30111398.pdf?src-supplier=Onlinecomponents.com; ComponentLink3URL: https://datasheet.ciiva.com/709/eng-cd-644861-n-basefilename-709739.pdf?src-supplier=Digi-Key; ComponentLink3Description: https://datasheet.ciiva.com/709/eng-cd-644861-n-basefilename-709739.pdf?src-supplier=Digi-Key; ComponentLink4URL: https://datasheet.ciiva.com/3118/eng-ds-82056-mta-0608-3118126.pdf?src-supplier=Avnet; ComponentLink4Description: https://datasheet.ciiva.com/3118/eng-ds-82056-mta-0608-3118126.pdf?src-supplier=Avnet; Supplier Part Number 1: A30931-ND
footprint PCB_TERM 6.3mm
pins: 1, 2

## Terminal BLK Green
designator TB?, comment TERM 1x2 5mm
PHOENIX CONTACT         MKDSN 1,5/ 2             Wire-To-Board Terminal Block, 5 mm, 2 Ways, 26 AWG, 16 AWG, 1.5 mm, Screw; Manufacturer Part Number 1: 1729018; Parameter Name 1: Bulk; Number of Positions: 2; Current Rating: 13.5A; Number of Levels: 1; Current: 10A; Gender: Male; Voltage Rating: 400V; Voltage: 300V; Max Supply Voltage: 250V; Wire Gauge (Max): 26AWG; Stripping Length: 6mm; Approvals: UL,CSA,cULus,CB; Supplier 1: Mouser; Manufacturer 1: Phoenix Contact; Stock 1: 6371; Pricing 1: 1=1.10000, 10=1.05000, 50=1.01000, 100=0.97400, 250=0.91000, 500=0.83800 (USD); RoHS: Yes; Mount: Through Hole; Number of Pins: 2; Weight: 0.06949oz; Color: Green; Material: Polyamide; Housing Material: Polyamide; Housing Color: Green; Contact Material: Tin; Insulation Material: Nylon; Package Quantity: 50; Termination: Screw; Number of Positions Per Level: 2; Number of Contacts: 2; Number of Circuits: 2; Connector Type: Screw; Orientation: Straight; Number of Rows: 1; Max Current Rating: 13.5A; Number of Poles: 2; Length: 8.1mm; Height: 13.5mm; Pitch: 5mm; Wire Gauge (Min): 26AWG; Depth: 8.1mm; Width: 13.5mm; Wire/Cable Gauge: 26AWG; Radiation Hardening: No; REACH SVHC: Unknown; Flammability Rating: UL94 V-0; Lead Free: Lead Free; ComponentLink1URL: https://datasheet.ciiva.com/16071/1729018-16071814.pdf?src-supplier=Onlinecomponents.com; ComponentLink1Description: https://datasheet.ciiva.com/16071/1729018-16071814.pdf?src-supplier=Onlinecomponents.com; ComponentLink2URL: https://datasheet.ciiva.com/832/1729018-832055.pdf?src-supplier=Digi-Key; ComponentLink2Description: https://datasheet.ciiva.com/832/1729018-832055.pdf?src-supplier=Digi-Key; ComponentLink3URL: https://datasheet.ciiva.com/15169/getdatasheetpartid-177860-15169643.pdf?src-supplier=Verical; ComponentLink3Description: https://datasheet.ciiva.com/15169/getdatasheetpartid-177860-15169643.pdf?src-supplier=Verical; ComponentLink4URL: https://datasheet.ciiva.com/14607/70054375-14607356.pdf?src-supplier=Allied+Electronics; ComponentLink4Description: https://datasheet.ciiva.com/14607/70054375-14607356.pdf?src-supplier=Allied+Electronics; ComponentLink5URL: https://datasheet.ciiva.com/33105/1729018-33105978.pdf?src-supplier=Today+Components; ComponentLink5Description: https://datasheet.ciiva.com/33105/1729018-33105978.pdf?src-supplier=Today+Components; Supplier Part Number 1: 651-1729018
footprint Terminal_5mm
pins: 1, 2

## TH CFR-25 Resis
designator R?, comment 1k
CFR Series 0.25 W 1 KOhm ±5 % -350 to 500 ppm/°C Carbon Film Resistor; Manufacturer 1: Yageo; Manufacturer Part Number 1: CFR-25JB-52-1K; Tolerance: 5%; Resistance: 1kR; Max Power Dissipation: 250mW; Parameter Name 1: Bulk; Supplier 1: Digi-Key; Stock 1: 194074; Pricing 1: 1=0.10000, 25=0.04680, 50=0.03640, 100=0.02600, 250=0.02028, 500=0.01612, 750=0.01379, 1000=0.01144, 2000=0.00988 (USD); RoHS: Yes; Case/Package: Axial; Min Operating Temperature: -55°C; Max Operating Temperature: 155°C; Temperature Coefficient: 500ppm/°C; Resistor Type: Carbon Film; Number of Terminations: 2; Package Quantity: 200; Power Rating: 250mW; Length: 0.248inch; Lead Free: Lead Free; ComponentLink1URL: http://www.yageo.com/NewPortal/yageodocoutput?fileName=/pdf/throughhole/Yageo_LR_CFR_2013.pdf&src-supplier=Digi-Key; ComponentLink1Description: http://www.yageo.com/NewPortal/yageodocoutput?fileName=/pdf/throughhole/Yageo_LR_CFR_2013.pdf&src-supplier=Digi-Key; ComponentLink2URL: http://www.yageo.com/documents/recent/General%20Type_CFR.pdf?src-supplier=Future+Electronics; ComponentLink2Description: http://www.yageo.com/documents/recent/General%20Type_CFR.pdf?src-supplier=Future+Electronics; Supplier Part Number 1: 1.0KQBK-ND
footprint R_THT_CFR-25
pins: 1, 2

## TH CFR-50 Resis
designator R?
General Type Carbon Film Resistor 330Ohm 1/2W 5% Axial Bulk; Manufacturer 1: Yageo; Manufacturer Part Number 1: CFR-50JB-52-330R; Temperature Coefficient: 500ppm/°C; Resistance: 330R; Max Power Dissipation: 500mW; Supplier 1: Digi-Key; Stock 1: 1637; Pricing 1: 1=0.11000, 10=0.09800, 25=0.06800, 50=0.05300, 100=0.03780, 250=0.02948, 500=0.02344, 1000=0.01663, 5000=0.01285 (USD); RoHS: Yes; Case/Package: Axial; Min Operating Temperature: -55°C; Max Operating Temperature: 155°C; Resistor Type: Carbon Film; Number of Terminations: 2; Package Quantity: 200; Packaging: Bulk; Tolerance: 5%; Length: 0.354inch; ComponentLink1URL: http://www.yageo.com/documents/recent/Yageo%20LR_CFR_2013.pdf?src-supplier=Digi-Key; ComponentLink1Description: http://www.yageo.com/documents/recent/Yageo%20LR_CFR_2013.pdf?src-supplier=Digi-Key
footprint R_THT_CFR-50
pins: 1, 2

## TH Red LED 5mm
designator D?, comment Red
LED RED DIFF 5MM OVAL T/H; Manufacturer 1: Marktech Optoelectronics; Manufacturer Part Number 1: MT5470E-UR; Dominant Wavelength: 625nm; Luminous Intensity: 2300mcd; Test Current: 20mA; Lens Transparency: Diffused; Forward Voltage: 2.1V; Lens Style: Diffused,Tinted; Parameter Name 1: Bulk; Viewing Angle: 70°; Supplier 1: Digi-Key; Stock 1: 7117; Pricing 1: 1=0.61000, 10=0.44100, 100=0.28800, 500=0.20700, 1000=0.16200, 2500=0.14850, 5000=0.13500, 10000=0.12600, 25000=0.12150 (USD); RoHS: Yes; Mount: Through Hole; Case/Package: Radial; Lens Color: Red; Color: Red; Package Quantity: 5000; Height: 7.8mm; ComponentLink1URL: https://datasheet.ciiva.com/18614/mt5470e-ur-18614243.pdf?src-supplier=Digi-Key; ComponentLink1Description: https://datasheet.ciiva.com/18614/mt5470e-ur-18614243.pdf?src-supplier=Digi-Key; Supplier Part Number 1: 1125-1193-ND
footprint LED_TH_2.54mm
pins: 1 Anode, 2 Cathode

## XT-60 Power Female Con.
designator J?, comment XT-60
XT60 CONNECTORS MALE/FEMALE PAIR; Manufacturer 1: SparkFun; Manufacturer Part Number 1: PRT-10474; Supplier 1: Digi-Key; Stock 1: 3168; Pricing 1: 1=1.50000 (USD); RoHS: No; ComponentLink1URL: https://cdn.sparkfun.com/datasheets/Prototyping/xt60.pdf?src-supplier=Digi-Key; ComponentLink1Description: https://cdn.sparkfun.com/datasheets/Prototyping/xt60.pdf?src-supplier=Digi-Key; Supplier Part Number 1: 1568-1816-ND
footprint XT-60_FEM
pins: 1 VCC, 2 GND

## Zener_DO-35
designator Z?, comment BZX55C10
TH Zener Diode DO-35
footprint DO-35
pins: A Anode, K Cathode